# EAGLE library part TLC59116 (library texas)
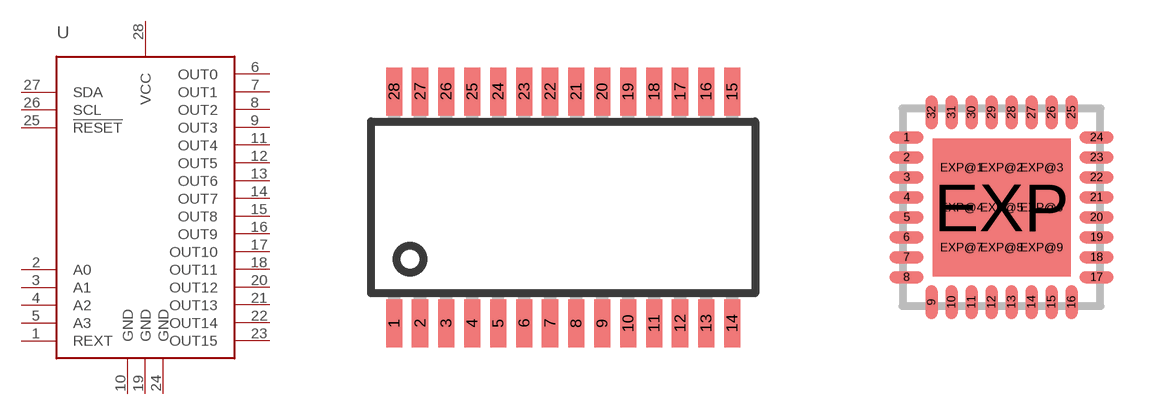
[diagram p119: symbol with the pads of PW_R-PDSO-G28; footprints PW_R-PDSO-G28, RHB_S-PQFP-N32]

Designator prefix -

## TLC59116PW (DIGIKEY_PN: 296-23354-1-ND)  [PW_R-PDSO-G28]
1  REXT
2  A0
3  A1
4  A2
5  A3
6  OUT0
7  OUT1
8  OUT2
9  OUT3
10  GND
11  OUT4
12  OUT5
13  OUT6
14  OUT7
15  OUT8
16  OUT9
17  OUT10
18  OUT11
19  GND
20  OUT12
21  OUT13
22  OUT14
23  OUT15
24  GND
25  !RESET
26  SCL
27  SDA
28  VCC

## TLC59116RHB (DIGIKEY_PN: 296-27584-1-ND)  [RHB_S-PQFP-N32]
1  A2
2  A3
3  OUT0
4  OUT1
5  OUT2
6  OUT3
7  GND
8  OUT4
9  OUT5
10  OUT6
11  OUT7
14  OUT8
15  OUT9
16  OUT10
17  OUT11
18  GND
19  OUT12
20  OUT13
21  OUT14
22  OUT15
23  GND
24  !RESET
25  SCL
26  SDA
27  VCC
30  REXT
31  A0
32  A1
EXP  GND
EXP@1  GND
EXP@2  GND
EXP@3  GND
EXP@4  GND
EXP@5  GND
EXP@6  GND
EXP@7  GND
EXP@8  GND
EXP@9  GND

## Footprint PW_R-PDSO-G28 (pad centres in mm)
PLASTIC SMALL-OUTLINE PACKAGE SO 28 JEDEC MO-153, PW Type Source: www.ti.com/.. slvs087l.pdf
smd 0.4 x 1.2: 1 -4.225,-2.9; 2 -3.575,-2.9; 3 -2.925,-2.9; 4 -2.275,-2.9; 5 -1.625,-2.9; 6 -0.975,-2.9; 7 -0.325,-2.9; 8 0.325,-2.9; 9 0.975,-2.9; 10 1.625,-2.9; 11 2.275,-2.9; 12 2.925,-2.9; 13 3.575,-2.9; 14 4.225,-2.9; 15 4.225,2.9; 16 3.575,2.9; 17 2.925,2.9; 18 2.275,2.9; 19 1.625,2.9; 20 0.975,2.9; 21 0.325,2.9; 22 -0.325,2.9; 23 -0.975,2.9; 24 -1.625,2.9; 25 -2.275,2.9; 26 -2.925,2.9; 27 -3.575,2.9; 28 -4.225,2.9

## Footprint RHB_S-PQFP-N32 (pad centres in mm)
RHB (S-PQFP-N32) Source: http://focus.ti.com/lit/ds/symlink/tusb2046b.pdf
smd 0.85 x 0.3: 1 -2.375,1.75; 2 -2.375,1.25; 3 -2.375,0.75; 4 -2.375,0.25; 5 -2.375,-0.25; 6 -2.375,-0.75; 7 -2.375,-1.25; 8 -2.375,-1.75; 17 2.375,-1.75; 18 2.375,-1.25; 19 2.375,-0.75; 20 2.375,-0.25; 21 2.375,0.25; 22 2.375,0.75; 23 2.375,1.25; 24 2.375,1.75
smd 0.3 x 0.85: 9 -1.75,-2.375; 10 -1.25,-2.375; 11 -0.75,-2.375; 12 -0.25,-2.375; 13 0.25,-2.375; 14 0.75,-2.375; 15 1.25,-2.375; 16 1.75,-2.375; 25 1.75,2.375; 26 1.25,2.375; 27 0.75,2.375; 28 0.25,2.375; 29 -0.25,2.375; 30 -0.75,2.375; 31 -1.25,2.375; 32 -1.75,2.375
smd 3.45 x 3.45: EXP 0,0
drill 0.3 pad 0.6: EXP@1 -1,1; EXP@2 0,1; EXP@3 1,1; EXP@4 -1,0; EXP@5 0,0; EXP@6 1,0; EXP@7 -1,-1; EXP@8 0,-1; EXP@9 1,-1